# Altium footprint library Wurth_Electronics_744777930_0.PcbLib: 1 footprints
Each footprint in its own frame and in the unit in brackets; x right, y up, seen from the top. Pads: shape width x height; smd on the part's side, far side on the other; paste and mask are expansions set on the pad; w line width, h text height; cw(c..) or ccw(c..) is an arc to the next point about the centre after c.
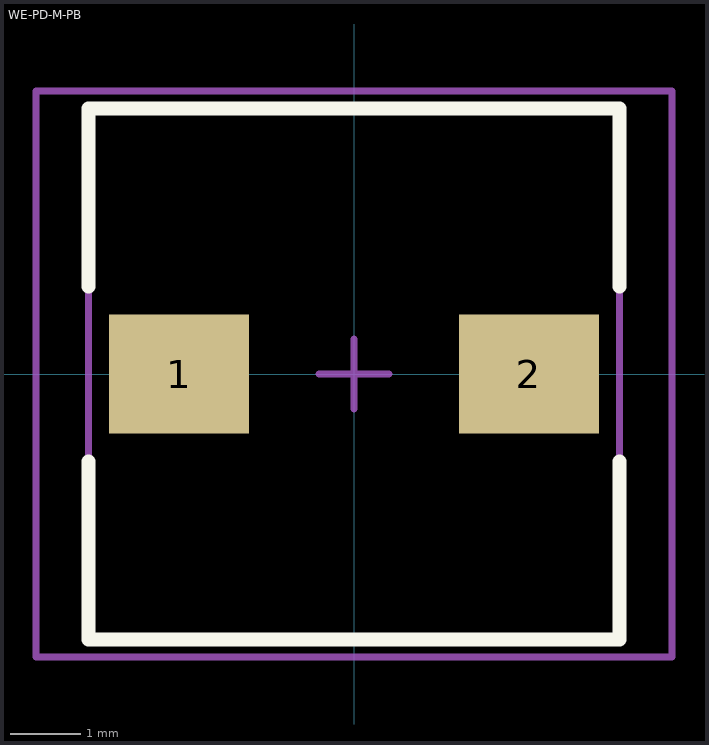
[diagram p0: the footprint, top view; thin cyan lines are the x and y axes]

## WE-PD-M-PB [mm] "SMD Inductor, 2-Leads, Body 7.3 x 7.3 mm"
height 4.5
pads (2):
  rect 2x1.7 smd: 1(-2.5,0) 2(2.5,0)
Top Overlay:
  lines w0.2: -3.8,-1.25 -3.8,-3.8 3.8,-3.8 3.8,-1.25 ; -3.8,1.25 -3.8,3.8 3.8,3.8 3.8,1.25
Mechanical 13:
  lines w0.1: -3.8,-3.8 -3.8,3.8 3.8,3.8 3.8,-3.8 -3.8,-3.8
Mechanical 15:
  lines w0.1: -0.5,0 0.5,0 ; 0,-0.5 0,0.5 ; -4.55,-4.05 -4.55,4.05 4.55,4.05 4.55,-4.05 -4.55,-4.05
3D body "744777910.stp": height 4.09, standoff -0.01, extent -3.65,-3.65 3.65,3.65